# Altium footprint library chemi-con cap.PcbLib: 1 footprints
Each footprint in its own frame and in the unit in brackets; x right, y up, seen from the top. Pads: shape width x height; smd on the part's side, far side on the other; paste and mask are expansions set on the pad; w line width, h text height; cw(c..) or ccw(c..) is an arc to the next point about the centre after c.
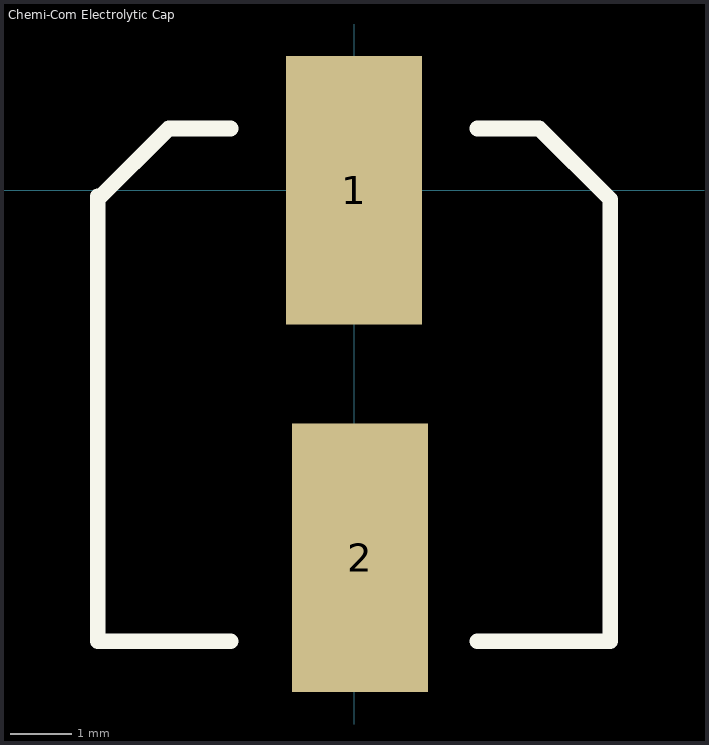
[diagram p0: the footprint, top view; thin cyan lines are the x and y axes]

## Chemi-Com Electrolytic Cap [mm]
height 10
pads (2):
  rect 2.2x4.35 smd: 1(0,0) 2(0.1,-5.95)
Top Overlay:
  lines w0.254: -4.15,-0.1 -4.1,-0.1 ; -2,-7.3 -4.15,-7.3 -4.15,-0.15 -3,1 -2,1 ; 2,-7.3 4.15,-7.3 4.15,-0.15 3,1 2,1
3D body: height -0.4, standoff -11.83, extent -4.2,-7.5 4.1,1.5